# Altium footprint library Altium_Footprints.PcbLib: 38 footprints (part 3 of 3)
Each footprint in its own frame and in the unit in brackets; x right, y up, seen from the top. Pads: shape width x height; smd on the part's side, far side on the other; paste and mask are expansions set on the pad; w line width, h text height; cw(c..) or ccw(c..) is an arc to the next point about the centre after c.
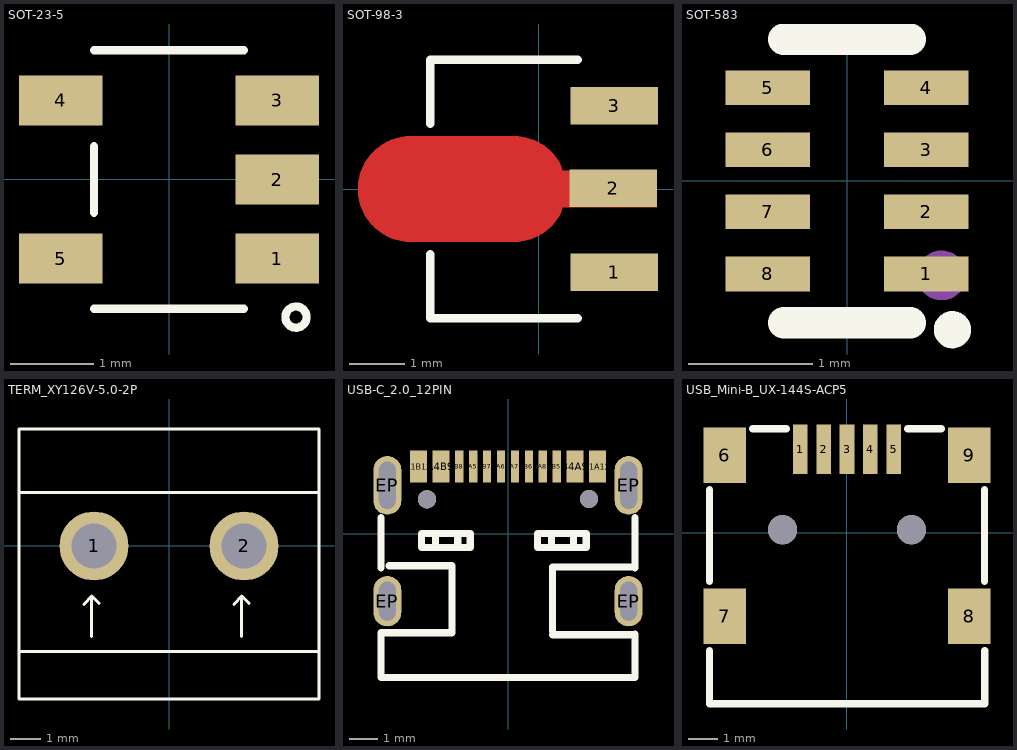
[diagram p2: the footprints below, top view; thin cyan lines are the x and y axes]

## SOT-23-5 [mm]
pads (5):
  rect 1x0.6 smd paste+0 mask+0.051: 1(1.3,-0.95) 2(1.3,0) 3(1.3,0.95) 4(-1.3,0.95) 5(-1.3,-0.95)
Top Overlay:
  circle w0.1: c1.524,-1.651 r0.127
  lines w0.1: -0.9,-1.55 0.9,-1.55 ; -0.9,-0.4 -0.9,0.4 ; -0.9,1.55 0.9,1.55
3D body "CircuitWorks-SOT-23-5.step": height 1.11, standoff 0.01, extent -1.25,-1.5 1.25,1.5

## SOT-98-3 [mm]
pads (3):
  rect 1.575x0.672 smd paste+0 mask+0.051: 1(1.356,-1.5) 2(1.336,0.011) 3(1.356,1.5)
Top Layer:
  region: -2.304,0.949 -0.45,0.949 -0.406,0.948 -0.361,0.945 -0.317,0.94 -0.273,0.933 -0.229,0.923 -0.186,0.912 -0.144,0.899 -0.102,0.883 -0.061,0.866 -0.021,0.847 0.019,0.826 0.057,0.803 0.094,0.778 0.13,0.752 0.164,0.724 0.198,0.694 0.23,0.663 0.26,0.63 0.289,0.597 0.316,0.561 0.341,0.525 0.365,0.487 0.387,0.448 0.407,0.409 0.426,0.329 2.123,0.329 2.123,-0.331 0.426,-0.331 0.407,-0.41 0.387,-0.45 0.365,-0.489 0.341,-0.526 0.316,-0.563 0.289,-0.598 0.26,-0.632 0.23,-0.665 0.198,-0.696 0.164,-0.725 0.13,-0.753 0.094,-0.78 0.057,-0.804 0.019,-0.827 -0.021,-0.848 -0.061,-0.867 -0.102,-0.885 -0.144,-0.9 -0.186,-0.913 -0.229,-0.925 -0.273,-0.934 -0.317,-0.941 -0.361,-0.947 -0.406,-0.95 -0.45,-0.951 -2.304,-0.951 -2.349,-0.95 -2.393,-0.947 -2.437,-0.941 -2.481,-0.934 -2.525,-0.925 -2.568,-0.913 -2.61,-0.9 -2.652,-0.885 -2.693,-0.867 -2.734,-0.848 -2.773,-0.827 -2.811,-0.804 -2.848,-0.78 -2.884,-0.753 -2.919,-0.725 -2.952,-0.696 -2.984,-0.665 -3.014,-0.632 -3.043,-0.598 -3.07,-0.563 -3.096,-0.526 -3.119,-0.489 -3.141,-0.45 -3.162,-0.41 -3.18,-0.369 -3.196,-0.328 -3.21,-0.286 -3.223,-0.243 -3.233,-0.2 -3.241,-0.156 -3.248,-0.112 -3.252,-0.067 -3.254,-0.023 -3.254,0.022 -3.252,0.066 -3.248,0.11 -3.241,0.154 -3.233,0.198 -3.223,0.242 -3.21,0.284 -3.196,0.327 -3.18,0.368 -3.162,0.409 -3.141,0.448 -3.119,0.487 -3.096,0.525 -3.07,0.561 -3.043,0.597 -3.014,0.63 -2.984,0.663 -2.952,0.694 -2.919,0.724 -2.884,0.752 -2.848,0.778 -2.811,0.803 -2.773,0.826 -2.734,0.847 -2.693,0.866 -2.652,0.883 -2.61,0.899 -2.568,0.912 -2.525,0.923 -2.481,0.933 -2.437,0.94 -2.393,0.945 -2.349,0.948
Top Overlay:
  lines w0.152: -1.95,-1.177 -1.95,-2.326 0.702,-2.326 ; -1.95,1.177 -1.95,2.326 0.702,2.326
Mechanical 15:
  circle w0.3: c1.715,-1.5 r0.15
3D body "SOT-89.step": height 1.35, standoff 0, extent -2.385,-2.3 1.865,2.3

## SOT-583 [mm]
pads (8):
  rect 0.68x0.28 smd paste+0 mask+0.051: 1(0.64,-0.75) 2(0.64,-0.25) 3(0.64,0.25) 4(0.64,0.75) 5(-0.64,0.75) 6(-0.64,0.25) 7(-0.64,-0.25) 8(-0.64,-0.75)
Top Overlay:
  circle w0.15: c0.85,-1.2 r0.075
  lines w0.254: -0.508,-1.143 0.508,-1.143 ; -0.508,1.143 0.508,1.143
Mechanical 15:
  circle w0.2: c0.762,-0.762 r0.1
3D body "TPS62933DRLR.STEP": height 0.6, standoff 0, extent -0.8,-1.05 0.8,1.05

## TERM_XY126V-5.0-2P [mm]
pads (2):
  round 2.3 hole 1.5 paste+0 mask+0.051: 1(-2.5,0) 2(2.5,0)
Top Overlay:
  lines w0.1: -5,-3.519 5,-3.519 ; -5,1.789 5,1.789 ; -2.833,-1.943 -2.579,-1.665 ; -2.579,-3.017 -2.579,-1.665 ; -2.326,-1.92 -2.579,-1.665 ; 2.167,-1.943 2.421,-1.665 ; 2.421,-3.017 2.421,-1.665 ; 2.674,-1.92 2.421,-1.665 ; -5,-5.1 -5,3.9 5,3.9 5,-5.1 -5,-5.1
3D body: height 10, standoff 0, extent -5,-5.1 5,3.9

## USB-C_2.0_12PIN [mm]
pads (18):
  rect 0.6x1.15 smd paste-100 mask+0.05: A1B12(-3.2,2.41) A4B9(-2.4,2.41) B1A12(3.2,2.41) B4A9(2.4,2.41)
  rect 0.3x1.15 smd paste-100 mask+0.05: A5(-1.25,2.41) A6(-0.25,2.41) A7(0.25,2.41) A8(1.25,2.41) B5(1.75,2.41) B6(0.75,2.41) B7(-0.75,2.41) B8(-1.75,2.41)
  oval 1x1.8 hole 0.6 slot 1.4 at 90 deg paste+0 mask+0.05: EP(-4.32,-2.41) EP(4.32,-2.41)
  oval 1x2.1 hole 0.6 slot 1.7 at 90 deg paste+0 mask+0.05: EP(-4.32,1.74) EP(4.32,1.74)
  round 0.65 hole 0.65 unplated paste+0: ""(-2.9,1.24) ""(2.9,1.25)
Top Overlay:
  lines w0.254: -4.55,-1.221 -4.55,0.01 -4.55,0.591 ; -4.25,-1.14 -2,-1.14 -2,-3.54 -4.55,-3.54 -4.55,-5.14 4.55,-5.14 4.55,-3.59 ; -3.1,0.01 -3.1,-0.49 -1.35,-0.49 -1.35,0.01 -3.05,0.01 ; -2.6,-0.49 -2.6,0.01 ; -1.8,-0.49 -1.8,0.01 ; 1.051,0.01 1.051,-0.49 2.801,-0.49 2.801,0.01 1.101,0.01 ; 1.551,-0.49 1.551,0.01 ; 1.6,-3.609 4.55,-3.609 ; 1.6,-3.489 1.6,-1.19 4.55,-1.19 ; 2.351,-0.49 2.351,0.01 ; 4.55,-1.221 4.55,0.591
Top Paste:
  drawing of 16 lines, arcs and shapes, not listed
Mechanical 15:
  circle w0.2: c-2.89,1.24 r0.1
  circle w0.2: c2.89,1.24 r0.1
3D body "2171750001.step": height 3.26, standoff -1.9, extent -4.517,-4.923 4.423,1.977

## USB_Mini-B_UX-144S-ACP5 [mm]
pads (11):
  rect 0.5x1.7 smd paste+0 mask+0.051: 1(-1.6,2.85) 2(-0.8,2.85) 3(0,2.85) 4(0.8,2.85) 5(1.6,2.85)
  rect 1.45x1.9 smd paste+0 mask+0.051: 6(-4.175,2.65) 7(-4.175,-2.85) 8(4.175,-2.85) 9(4.175,2.65)
  round 1 hole 1 unplated paste+0: ""(-2.2,0.1) ""(2.2,0.1)
Top Overlay:
  lines w0.254: -4.699,-4.031 -4.699,-5.842 4.699,-5.842 4.699,-4.031 ; -4.699,-1.669 -4.699,1.469 ; -3.219,3.556 -2.081,3.556 ; 2.081,3.556 3.219,3.556 ; 4.699,-1.669 4.699,1.469
3D body "User Library-548190572_USBBMINI.step": height 4, standoff -0.05, extent -4.95,-6.049 4.95,2.951